# Altium footprint library R82DC4100AA60J.PcbLib: 1 footprints
Each footprint in its own frame and in the unit in brackets; x right, y up, seen from the top. Pads: shape width x height; smd on the part's side, far side on the other; paste and mask are expansions set on the pad; w line width, h text height; cw(c..) or ccw(c..) is an arc to the next point about the centre after c.
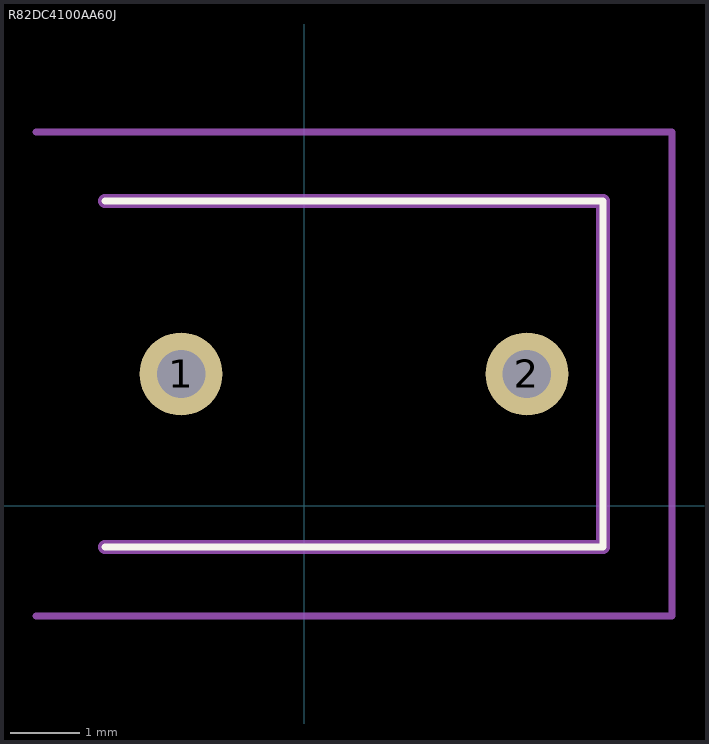
[diagram p0: the footprint, top view; thin cyan lines are the x and y axes]

## R82DC4100AA60J [mm]
pads (2):
  round 1.2 hole 0.7: 1(-1.778,1.905) 2(3.222,1.905)
Top Overlay:
  lines w0.1: -2.878,-0.595 4.322,-0.595 4.322,4.405 -2.878,4.405
Mechanical 13:
  lines w0.2: -2.878,-0.595 4.322,-0.595 4.322,4.405 -2.878,4.405
Mechanical 15:
  lines w0.1: -3.878,-1.595 5.322,-1.595 5.322,5.405 -3.878,5.405
3D body "R82DC4100AA60J.stp": height 9.8, standoff -5.3, extent -2.988,-0.635 4.512,4.466